# Altium footprint library Diode.PcbLib: 11 footprints
Each footprint in its own frame and in the unit in brackets; x right, y up, seen from the top. Pads: shape width x height; smd on the part's side, far side on the other; paste and mask are expansions set on the pad; w line width, h text height; cw(c..) or ccw(c..) is an arc to the next point about the centre after c.
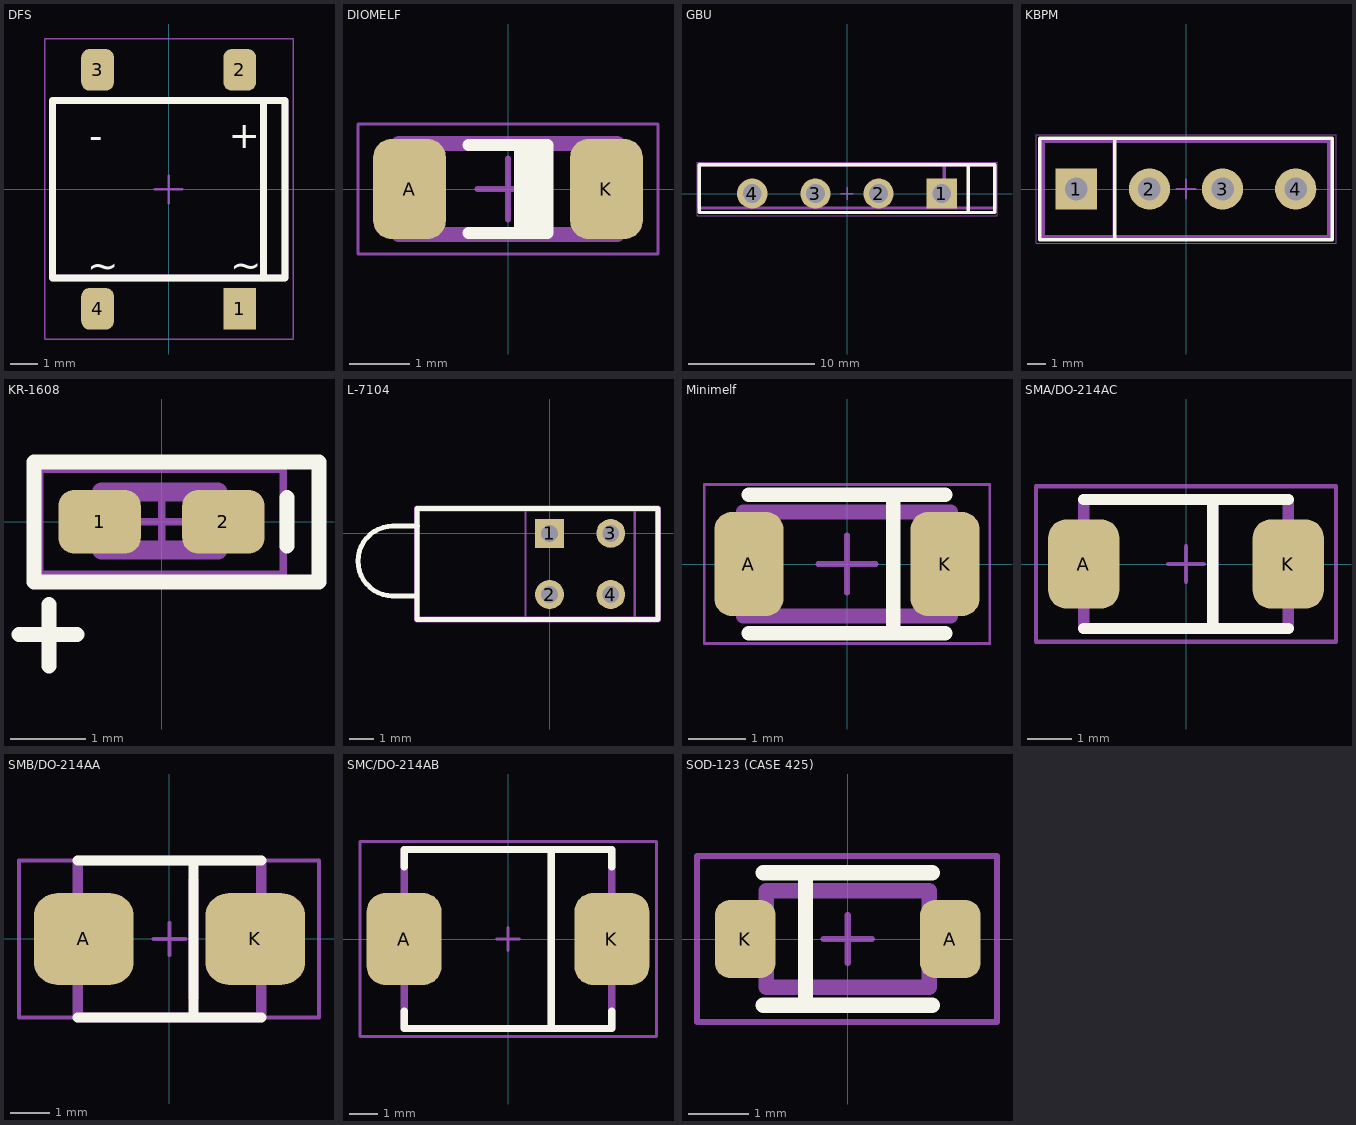
[diagram p0: the footprints below, top view; thin cyan lines are the x and y axes]

## DFS [mm]
height 3.3
pads (4):
  rect 1.2x1.52 smd: 1(2.6,-4.37)
  rrect50% 1.2x1.52 smd: 2(2.6,4.37) 3(-2.6,4.37)
  rrect50% 1.2x1.52 smd mask+0.102: 4(-2.6,-4.37)
Top Overlay:
  lines w0.254: 3.475,-3.25 3.475,3.25 ; -4.25,-3.25 -4.25,3.25 4.25,3.25 4.25,-3.25 -4.25,-3.25
  text "+" at 2.2,1.5 h1
  text "-" at -2.9,1.475 h1
  text "~" at 2.25,-3.25 h1
  text "~" at -2.975,-3.275 h1
Top Assy:
  lines w0.254: 3.475,-3.263 3.475,3.237 ; -4.25,-3.25 4.25,-3.25 4.25,3.25 -4.25,3.25 -4.25,-3.25
Mechanical 13:
  lines w0.1: -4.25,-3.25 -4.25,3.25 4.25,3.25 4.25,-3.25 -4.25,-3.25
Mechanical 15:
  lines w0.05: -4.525,-5.475 -4.525,5.5 4.55,5.5 4.55,-5.475 -4.525,-5.475
  lines w0.1: -0.5,0 0.5,0 ; 0,-0.5 0,0.5
3D body: height 3.3, standoff 0.33, extent -4.25,-3.275 4.25,3.25

## DIOMELF [mm] "MELF Diode, 2-Leads, Body 3,45x1,40mm, IPC Medium Density"
height 1.5
pads (2):
  rrect50% 1.2x1.65 smd: A(-1.625,0) K(1.625,0)
Top Overlay:
  rectangle: 0.1,-0.725 0.65,0.725
  lines w0.2: -0.65,-0.725 0.65,-0.725 0.65,0.725 -0.65,0.725
Top Assy:
  lines w0.254: -1.8,-0.75 -1.8,0.75 1.8,0.75 1.8,-0.75 -1.8,-0.75
Mechanical 13:
  lines w0.1: -1.8,-0.75 -1.8,0.75 1.8,0.75 1.8,-0.75 -1.8,-0.75
Mechanical 15:
  lines w0.05: -2.475,-1.075 -2.475,1.075 2.475,1.075 2.475,-1.075 -2.475,-1.075
  lines w0.1: -0.5,0 0.5,0 ; 0,-0.5 0,0.5
3D body: height 1.49, standoff 0, extent -1.8,-0.75 -1.3,0.747
3D body: height 1.48, standoff 0.04, extent 0.1,-0.721 0.7,0.718
3D body: height 1.48, standoff 0.04, extent -1.3,-0.72 1.3,0.717
3D body: height 1.49, standoff 0, extent 1.3,-0.75 1.8,0.747

## GBU [mm]
height 19.1
pads (4):
  rect 2.4x2.4 hole 1.5: 1(7.5,0)
  round 2.4 hole 1.5: 2(2.5,0) 3(-2.5,0) 4(-7.5,0)
Top Overlay:
  lines w0.254: 9.6,-1.5 9.6,1.3 9.6,2.28 ; 9.6,2.28 11.7,2.28 11.7,-1.5 6.85,-1.5 -11.7,-1.5 -11.7,2.28 9.6,2.28
Top Assy:
  lines w0.254: 7.7,-1.15 7.7,2.28 ; -11.7,-1.15 -11.7,2.28 0,2.28 11.7,2.28 11.7,-1.15 0,-1.15 -11.7,-1.15
Mechanical 13:
  lines w0.1: -11.7,-1.3 -11.7,2.28 11.7,2.28 11.7,-1.15 -11.7,-1.15
Mechanical 15:
  lines w0.05: -11.875,-1.75 11.875,-1.75 11.875,2.475 -11.875,2.475 -11.875,-1.75
  lines w0.1: -0.5,0 0.5,0 ; 0,-0.5 0,0.5
3D body: height 19.1, standoff 0, extent -11.7,-1.2 11.675,2.275

## KBPM [mm] "Diode Bridge"
height 12.7
pads (4):
  rect 2.2x2.2 hole 1.2: 1(-5.85,0)
  round 2.2 hole 1.2: 2(-1.95,0) 3(1.95,0) 4(5.85,0)
Top Overlay:
  lines w0.2: -3.8,-2.7 -3.8,2.7 ; -7.8,-2.7 7.8,-2.7 7.8,2.7 -7.8,2.7 -7.8,-2.7
Top Assy:
  lines w0.2: -3.82,-2.54 -3.82,2.54 ; -7.62,-2.54 7.62,-2.54 7.62,2.54 -7.62,2.54 -7.62,-2.54
Mechanical 13:
  lines w0.1: -7.62,-2.54 7.62,-2.54 7.62,2.54 -7.62,2.54 -7.62,-2.54
Mechanical 15:
  lines w0.05: -8,-2.9 8,-2.9 8,2.9 -8,2.9 -8,-2.9
  lines w0.1: -0.5,0 0.5,0 ; 0,-0.5 0,0.5
3D body: height 12.7, standoff 0, extent -7.67,-2.59 7.67,2.59

## KR-1608 [mm] "Molded Diode, 2-Leads, Body 1,6x0,8mm, IPC Medium Density"
height 1.1
pads (2):
  rrect50% 1.1x0.85 smd: 1(-0.825,0) 2(0.825,0)
Top Overlay:
  lines w0.2: -1.9,-1.5 -1.125,-1.5 ; -1.5,-1.925 -1.5,-1.1 ; 1.675,-0.325 1.675,0.325 ; -1.7,-0.8 2.1,-0.8 2.1,0.8 -1.7,0.8 -1.7,-0.8
Top Assy:
  lines w0.254: -0.8,-0.375 -0.8,0.4 0.75,0.4 0.75,-0.375 -0.8,-0.375
Mechanical 13:
  rectangle: 0.585,-0.4 0.8,0.4
  lines w0.1: -0.8,-0.4 0.8,-0.4 0.8,0.4 -0.8,0.4 -0.8,-0.4
Mechanical 15:
  lines w0.1: -0.4,0 0.4,0 ; 0,-0.4 0,0.4 ; -1.625,-0.7 1.625,-0.7 1.625,0.7 -1.625,0.7 -1.625,-0.7
3D body: height 1.1, standoff 0, extent -0.8,-0.4 0.8,0.4

## L-7104 [mm]
pads (4):
  rect 1.2x1.2 hole 0.7: 1(0,0)
  round 1.2 hole 0.7: 2(0,-2.54) 3(2.54,0) 4(2.54,-2.54)
Top Overlay:
  lines w0.2: -6.55,-2.6 -5.5,-2.6 ; -6.525,0.3 -5.475,0.3 ; -6.5,-2.6 cw(c-6.5,-1.15) -6.5,0.3 ; -5.5,-3.57 4.5,-3.57 4.5,1.03 -5.5,1.03 -5.5,-3.57
Top Assy:
  lines w0.254: -5.5,-3.575 4.5,-3.575 4.5,1.025 -5.5,1.025 -5.5,-3.575
Mechanical 13:
  lines w0.1: -5.5,-3.57 -5.5,1.03 4.5,1.03 4.5,-3.57 -5.5,-3.57
Mechanical 15:
  lines w0.1: -0.4,0 0.4,0 ; 0,-0.4 0,0.4 ; -1,-3.57 3.54,-3.57 3.54,1.03 -1,1.03 -1,-3.57
3D body: height 9.85, standoff 0, extent -5.5,-3.6 4.5,1

## Minimelf [mm]
pads (2):
  rrect50% 1.2x1.8 smd: A(-1.7,0) K(1.7,0)
Top Overlay:
  lines w0.254: -1.7,-1.2 1.7,-1.2 ; -1.7,1.2 1.7,1.2 ; 0.8,-1.2 0.8,1.2
Top Assy:
  lines w0.254: -1.8,-0.9 -1.8,0.9 1.8,0.9 1.8,-0.9 -1.8,-0.9
Mechanical 13:
  lines w0.1: -1.8,-0.9 -1.8,0.9 1.8,0.9 1.8,-0.9 -1.8,-0.9
Mechanical 15:
  lines w0.05: -2.475,-1.375 -2.475,1.375 2.475,1.375 2.475,-1.375 -2.475,-1.375
  lines w0.1: -0.5,0 0.5,0 ; 0,-0.5 0,0.5
3D body: height 1.5, standoff 0, extent -1.8,-0.9 1.8,0.9

## SMA/DO-214AC [mm]
height 2.5
pads (2):
  rrect50% 1.6x2 smd: A(-2.3,0) K(2.3,0)
Top Overlay:
  lines w0.254: -2.3,-1.45 2.3,-1.45 ; -2.3,1.45 2.3,1.45 ; 0.6,-1.45 0.6,1.45
Top Assy:
  lines w0.254: -2.3,-0.8 -2.65,-0.8 -2.65,0.8 -2.3,0.8 ; 0.6,-1.45 0.6,1.45 ; 2.3,-0.8 2.65,-0.8 2.65,0.8 2.3,0.8 ; -2.3,-1.45 -2.3,1.45 2.3,1.45 2.3,-1.45 -2.3,-1.45
Mechanical 13:
  lines w0.1: -2.3,-1.45 2.3,-1.45 2.3,1.45 -2.3,1.45 -2.3,-1.45
Mechanical 15:
  lines w0.1: -0.4,0 0.4,0 ; 0,-0.4 0,0.4 ; -3.375,-1.75 3.375,-1.75 3.375,1.75 -3.375,1.75 -3.375,-1.75
3D body: height 2.5, standoff 0, extent -2.3,-1.45 2.3,1.45

## SMB/DO-214AA [mm]
height 2.5
pads (2):
  rrect50% 2.5x2.3 smd: A(-2.15,0) K(2.15,0)
Top Overlay:
  lines w0.254: -2.3,-1.97 2.3,-1.97 ; -2.3,1.97 2.3,1.97 ; 0.6,-1.97 0.6,1.97
Top Assy:
  lines w0.254: -2.3,-0.8 -2.65,-0.8 -2.65,0.8 -2.3,0.8 ; 0.6,-1.45 0.6,1.45 ; 2.3,-0.8 2.65,-0.8 2.65,0.8 2.3,0.8 ; -2.3,-1.97 2.3,-1.97 2.3,1.97 -2.3,1.97 -2.3,-1.97
Mechanical 13:
  lines w0.1: -2.3,-1.97 -2.3,1.97 2.3,1.97 2.3,-1.97 -2.3,-1.97
Mechanical 15:
  lines w0.1: -0.4,0 0.4,0 ; 0,-0.4 0,0.4 ; -3.775,-1.975 -3.775,1.975 3.75,1.975 3.75,-1.975 -3.775,-1.975
3D body: height 2.5, standoff 0, extent -2.3,-1.975 2.3,1.975

## SMC/DO-214AB [mm]
height 2.62
pads (2):
  rrect50% 2.6x3.2 smd: A(-3.6,0) K(3.6,0)
Top Overlay:
  lines w0.254: -3.6,-2.5 -3.6,-3.1 3.6,-3.1 3.6,-2.5 ; -3.6,2.5 -3.6,3.1 3.6,3.1 3.6,2.5 ; 1.5,-3.1 1.5,3.1
Top Assy:
  lines w0.254: 1.5,-3.1 1.5,3.1 ; -3.6,-3.1 -3.6,3.1 3.6,3.1 3.6,-3.1 -3.6,-3.1
Mechanical 13:
  lines w0.1: -3.6,-3.1 -3.6,3.1 3.6,3.1 3.6,-3.1 -3.6,-3.1
Mechanical 15:
  lines w0.1: -0.4,0 0.4,0 ; 0,-0.4 0,0.4 ; -5.125,-3.375 -5.125,3.375 5.15,3.375 5.15,-3.375 -5.125,-3.375
3D body: height 2.62, standoff 0, extent -3.6,-3.1 3.6,3.1

## SOD-123 (CASE 425) [mm]
height 1.2
pads (2):
  rrect50% 1x1.3 smd: A(1.7,0) K(-1.7,0)
Top Overlay:
  lines w0.254: -1.4,-1.1 1.4,-1.1 ; -1.4,1.1 1.4,1.1 ; -0.7,-1.1 -0.7,1.1
Top Assy:
  lines w0.254: -0.7,0.5 -0.7,-0.8 -0.7,0.8 ; -1.35,-0.8 1.35,-0.8 1.35,0.8 -1.35,0.8 -1.35,-0.8
Mechanical 13:
  lines w0.1: -1.35,-0.8 1.35,-0.8 1.35,0.8 -1.35,0.8 -1.35,-0.8
Mechanical 15:
  lines w0.1: -0.4,0 0.4,0 ; 0,-0.4 0,0.4 ; -2.5,-1.375 2.475,-1.375 2.475,1.375 -2.5,1.375 -2.5,-1.375
3D body: height 1.2, standoff 0, extent -1.35,-0.8 1.35,0.8